# Altium footprint library TO-220 AB.PcbLib: 1 footprints
Each footprint in its own frame and in the unit in brackets; x right, y up, seen from the top. Pads: shape width x height; smd on the part's side, far side on the other; paste and mask are expansions set on the pad; w line width, h text height; cw(c..) or ccw(c..) is an arc to the next point about the centre after c.
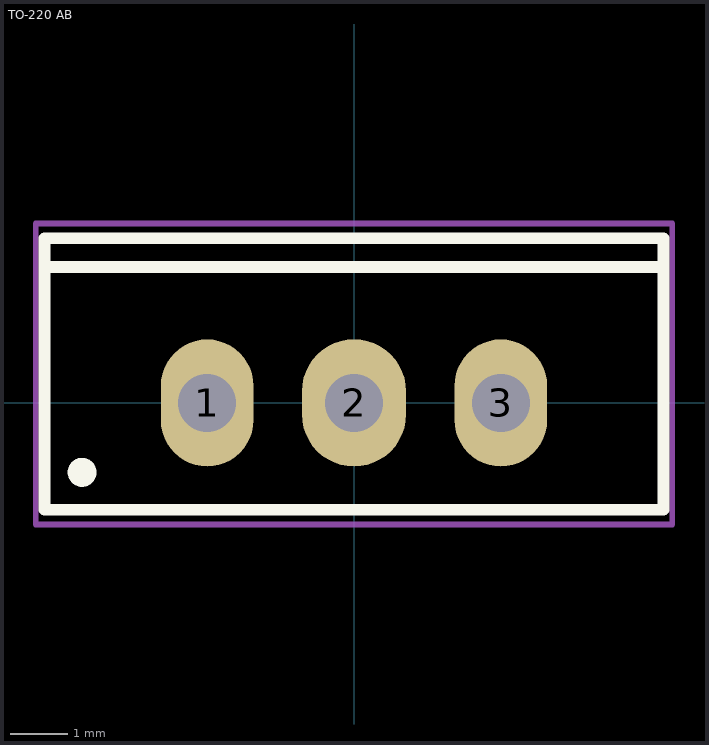
[diagram p0: the footprint, top view; thin cyan lines are the x and y axes]

## TO-220 AB [mm] "Epoxy meets UL94, V0"
height 17
pads (3):
  oval 1.6x2.2 hole 1: 1(-2.54,0) 3(2.54,0)
  oval 1.8x2.2 hole 1: 2(0,0)
Top Overlay:
  circle w0.25: c-4.7,-1.2 r0.125
  lines w0.2: -5.35,2.35 5.35,2.35 ; -5.35,-1.85 5.35,-1.85 5.35,2.85 -5.35,2.85 -5.35,-1.85
Mechanical 13:
  lines w0.1: -5.35,-1.85 -5.35,2.85 5.35,2.85 5.35,-1.85 -5.35,-1.85
Mechanical 15:
  lines w0.1: -0.5,0 0.5,0 ; 0,-0.5 0,0.5 ; -5.5,-2.1 -5.5,3.1 5.5,3.1 5.5,-2.1 -5.5,-2.1
3D body "SW3DPS-TO-220HS-DEFAULT.STEP": height 18.54, standoff -3.81, extent -5.08,-1.651 5.08,2.921